# Altium schematic symbol library MISC.SchLib: 16 symbols
Pins are listed as number, name and electrical type; pins without a type are passive.

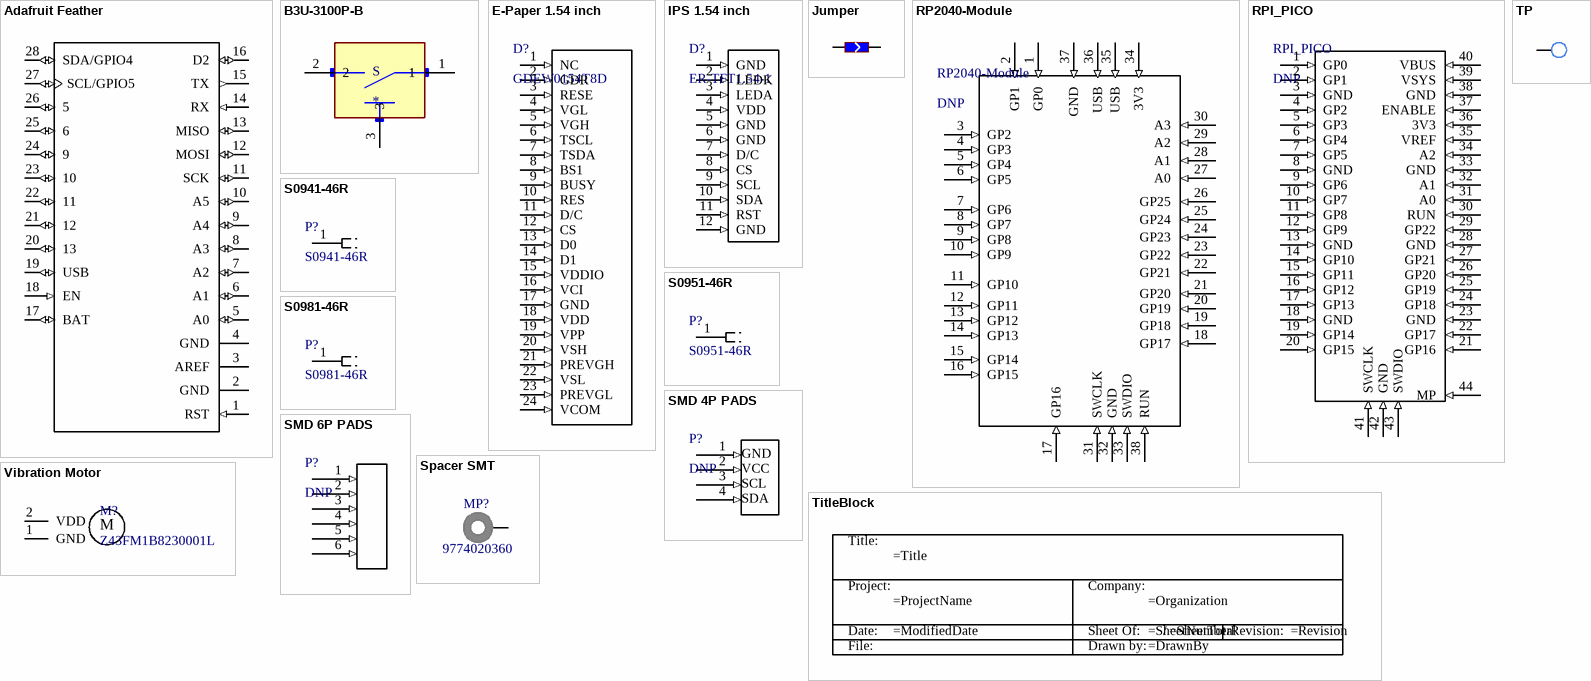
[diagram p0: symbols Adafruit Feather to Vibration Motor]

## Adafruit Feather
designator Feather, comment DNP  (value not drawn)
Adafruit Feather Footprint; MF: Adafruit Industries; MP: 2821; Price: None; Package: None; Availability: Unavailable; SnapEDA_Link: https://www.snapeda.com/parts/2821/Adafruit%20Industries%20LLC/view-part/?ref=snap; Value: *
footprint Feather (Adafruit Feather footprint)
pins: 1 RST (in), 2 GND (power), 3 AREF (power), 4 GND (power), 5 A0 (io), 6 A1 (io), 7 A2 (io), 8 A3 (io), 9 A4 (io), 10 A5 (io), 11 SCK (io), 12 MOSI (io), 13 MISO (io), 14 RX (in), 15 TX (out), 16 D2 (io), 17 BAT (io), 18 EN (in), 19 USB (io), 20 13 (io), 21 12 (io), 22 11 (io), 23 10 (io), 24 9 (io), 25 6 (io), 26 5 (io), 27 SCL/GPIO5 (io), 28 SDA/GPIO4 (io)

## B3U-3100P-B
designator S
Tactile Switch SPST-NO Side Actuated Surface Mount, Right Angle; MP: B3U-3100P-B; MF: Omron; Value: *; Availability: Unavailable; Package: None; Mouser-Purchase-URL: https://snapeda.com/shop?store=Mouser&id=125576; SnapEDA_Link: https://www.snapeda.com/parts/B3U-3100P-B/Omron%20Electronics%20Inc-EMC%20Div/view-part/125576/?ref=snap; Price: None
footprint SW_B3U-3100P-B
pins: 1, 2, 3

## E-Paper 1.54 inch
designator D?, comment GDEW0154T8D
E-Paper 1.54 inch with integrated driver
footprint E-Papaer 1.54inches
pins: 1 NC (in), 2 GDR (in), 3 RESE (in), 4 VGL (in), 5 VGH (in), 6 TSCL (in), 7 TSDA (in), 8 BS1 (in), 9 BUSY (in), 10 RES (in), 11 D/C (in), 12 CS (in), 13 D0 (in), 14 D1 (in), 15 VDDIO (in), 16 VCI (in), 17 GND (in), 18 VDD (in), 19 VPP (in), 20 VSH (in), 21 PREVGH (in), 22 VSL (in), 23 PREVGL (in), 24 VCOM (in)

## IPS 1.54 inch
designator D?, comment ER-TFT1.54-1
IPS display 1.54 inch SPI
footprint IPS 1.54 inches
pins: 1 GND (in), 2 LEDK (in), 3 LEDA (in), 4 VDD (in), 5 GND (in), 6 GND (in), 7 D/C (in), 8 CS (in), 9 SCL (in), 10 SDA (in), 11 RST (in), 12 GND (in)

## Jumper
designator JP, comment DNP  (value not drawn)
Copper jumper, place a 0R res for shorting during fabrication
footprint JP2_SMD
pins: 1 (oc), 2 (oc)

## RP2040-Module
designator RP2040-Module, comment DNP
RP2040-Module
footprint RP2040-Module (Module)
pins: 1 GP0 (in), 2 GP1 (in), 3 GP2 (in), 4 GP3 (in), 5 GP4 (in), 6 GP5 (in), 7 GP6 (in), 8 GP7 (in), 9 GP8 (in), 10 GP9 (in), 11 GP10 (in), 12 GP11 (in), 13 GP12 (in), 14 GP13 (in), 15 GP14 (in), 16 GP15 (in), 17 GP16 (in), 18 GP17 (in), 19 GP18 (in), 20 GP19 (in), 21 GP20 (in), 22 GP21 (in), 23 GP22 (in), 24 GP23 (in), 25 GP24 (in), 26 GP25 (in), 27 A0 (in), 28 A1 (in), 29 A2 (in), 30 A3 (in), 31 SWCLK (in), 32 GND (in), 33 SWDIO (in), 34 3V3 (in), 35 USB (in), 36 USB (in), 37 GND (in), 38 RUN (in)

## RPI_PICO
designator RPI_PICO, comment DNP
RPI_PICO
footprint RPI PICO (PICO)
pins: 1 GP0 (in), 2 GP1 (in), 3 GND (in), 4 GP2 (in), 5 GP3 (in), 6 GP4 (in), 7 GP5 (in), 8 GND (in), 9 GP6 (in), 10 GP7 (in), 11 GP8 (in), 12 GP9 (in), 13 GND (in), 14 GP10 (in), 15 GP11 (in), 16 GP12 (in), 17 GP13 (in), 18 GND (in), 19 GP14 (in), 20 GP15 (in), 21 GP16 (in), 22 GP17 (in), 23 GND (in), 24 GP18 (in), 25 GP19 (in), 26 GP20 (in), 27 GP21 (in), 28 GND (in), 29 GP22 (in), 30 RUN (in), 31 A0 (in), 32 A1 (in), 33 GND (in), 34 A2 (in), 35 VREF (in), 36 3V3 (in), 37 ENABLE (in), 38 GND (in), 39 VSYS (in), 40 VBUS (in), 41 SWCLK (in), 42 GND (in), 43 SWDIO (in), 44 MP (in)

## S0941-46R
designator P?
Shield Clip connector for 10x10mm RFI Shield Can, 0.15mm thickness
footprint S0941-46R (Shield Clip)
pins: 1 SHIELD

## S0951-46R
designator P?
Shield Clip connector for 25x20mm RFI Shield Can, 0.2mm thickness
footprint S0951-46R (Shield Clip)
pins: 1 SHIELD

## S0981-46R
designator P?
Shield Clip connector for 25x20mm RFI Shield Can, 0.2mm thickness
footprint S0981-46R (Shield Clip)
pins: 1 SHIELD

## SMD 4P PADS
designator P?, comment DNP
SMD PADS
footprint SMD Wire Pads 2.54mm 4p
pins: 1 (in), 2 (in), 3 (in), 4 (in)
text: GND; VCC; SCL; SDA

## SMD 6P PADS
designator P?, comment DNP
SMD PADS
footprint SMD Wire Pads 2.54mm 6p
pins: 1 (in), 2 (in), 3 (in), 4 (in), 5 (in), 6 (in)

## Spacer SMT
designator MP?, comment 9774020360
WA-SMSI SMT Steel Spacer, M3 Thread Internal, OD 6mm, M3x2mm; Manufacturer: Wurth Elektronik; Inner Diameter: 4.2mm; Surface: Tin; ComponentLink1Description: Manufacturer; ComponentLink1URL: http://www.we-online.de; ComponentLink2Description: Datasheet; ComponentLink2URL: https://www.we-online.com/catalog/datasheet/9774020360.pdf; Mounting Technology: SMT; Packaging: Bulk; Manufacturer Part Number: 9774020360; Length: 2mm; Inner Thread Length: -; Operating Temperature: -55 to +150degC; Outer Diameter: 6mm; Published Date: April 2020; Material: Steel; Thread: M3
footprint 9774020360
pins: 1

## TitleBlock
designator *  (value not drawn)  (graphical)
text: Title:; Project:; Company:; Date:; Sheet Of:; /; Revision:; File:; Drawn by:

## TP
designator TP, comment DNP  (value not drawn)
footprint PowerPad
footprint MountingHole
footprint smd tp
footprint MountingHole 5mm (5.2mm)
footprint TP_SMD_1.0mm (Footprint not found)
footprint MountingHole 4mm (4.1mm)
footprint S2711-46R (Shielding can clip 0.17mm to 0.3mm)
footprint Wire Soldering VIA (14 AWG)
footprint TP_SMD_2.54mm (100mils)
footprint MountingHole M8 (8mm)
footprint 12awg
pins: 1

## Vibration Motor
designator M?, comment Z43FM1B8230001L
SMD Vibration Motor / https://www.vibration-motor.com/cylindrical-vibrator-motors/smt-surface-mount-reflow/z43fm1b8230001l; ComponentLink1Description: Manufacturer; ComponentLink1URL: https://www.vibration-motor.com/cylindrical-vibrator-motors/smt-surface-mount-reflow/z43fm1b8230001l
footprint Z43FM1B8230001L (SMD Vibration Motor)
pins: 1 GND, 2 VDD
text: M